# EAGLE library part MICRO_MATE-N-LOK_6_RIGHT_ANGLE (library con-tyco-micro-mate-n-lok-old)
794629-6
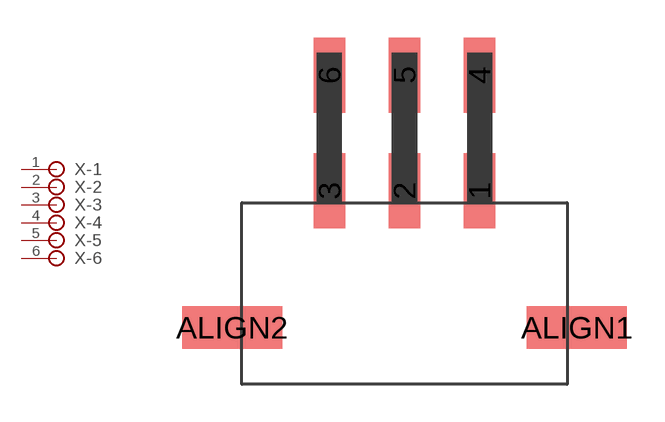
[diagram p4: symbol with the pads of MICRO_MATE-N-LOK_6_2_ROW_SURFACE_RIGHT_ANGLE; footprint MICRO_MATE-N-LOK_6_2_ROW_SURFACE_RIGHT_ANGLE]

Designator prefix X; gates -3=PIN -2=PIN -1=PIN -4=PIN -5=PIN -6=PIN

## MICRO_MATE-N-LOK_6_RIGHT_ANGLE  [MICRO_MATE-N-LOK_6_2_ROW_SURFACE_RIGHT_ANGLE]
1  -1:P$1
2  -2:P$1
3  -3:P$1
4  -4:P$1
5  -5:P$1
6  -6:P$1

## Footprint MICRO_MATE-N-LOK_6_2_ROW_SURFACE_RIGHT_ANGLE (pad centres in mm)
smd 1.27 x 3: 1 3,5.48; 2 0,5.48; 3 -3,5.48; 4 3,10.1; 5 0,10.1; 6 -3,10.1
smd 4 x 1.7: ALIGN1 6.895,0; ALIGN2 -6.895,0